# Altium integrated library Button.IntLib: 20 symbols
Pins are listed as number, name and electrical type; pins without a type are passive.

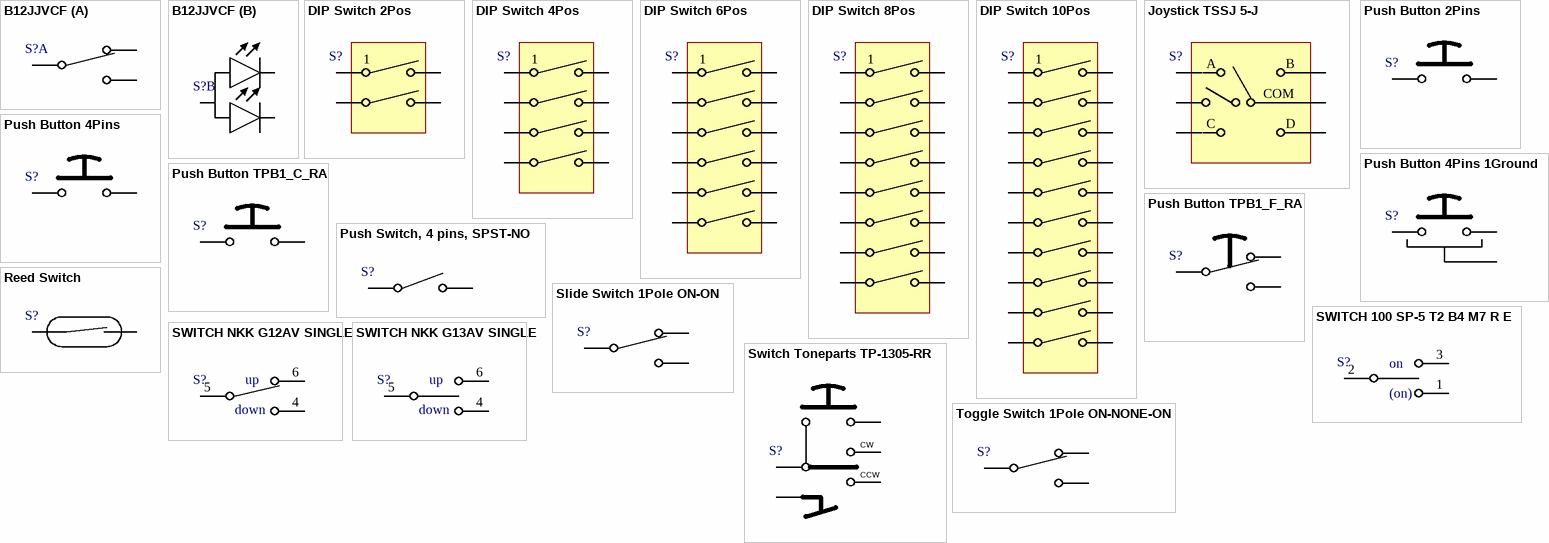
[diagram p0: symbols B12JJVCF to Toggle Switch 1Pole ON-NONE-ON]

## B12JJVCF
designator S?  (value not drawn)
Subminiature Fully Illuminated Toggle Switch; Value: *
footprint B12JJVCF
part A pins: 1 NO, 2 COM, 3 NC
part B pins: 4 C1, 5 A, 6 C2

## DIP Switch 2Pos
designator S?  (value not drawn)
MULTICOMP  MCDHN-02F; Value: *
footprint DIP SWITCH MULTICOMP  MCDHN-02F (DIP SWITCH MULTICOMP  MCDHN-02F, P1.27)
pins: 1, 2, 3, 4

## DIP Switch 4Pos
designator S?  (value not drawn)
MULTICOMP  MCDHN-04F; Value: *
footprint DIP SWITCH MULTICOMP  MCDHN-04F (DIP SWITCH MULTICOMP  MCDHN-04F, P1.27)
pins: 1, 2, 3, 4, 5, 6, 7, 8

## DIP Switch 6Pos
designator S?  (value not drawn)
MULTICOMP  MCDHN-06F; Value: *
footprint DIP SWITCH MULTICOMP  MCDHN-06F (DIP SWITCH MULTICOMP  MCDHN-06F, P1.27)
pins: 1, 2, 3, 4, 5, 6, 7, 8, 9, 10, 11, 12

## DIP Switch 8Pos
designator S?  (value not drawn)
MULTICOMP  MCDHN-08F; Value: *
footprint DIP SWITCH MULTICOMP  MCDHN-08F (DIP SWITCH MULTICOMP  MCDHN-08F, P1.27)
pins: 1, 2, 3, 4, 5, 6, 7, 8, 9, 10, 11, 12, 13, 14, 15, 16

## DIP Switch 10Pos
designator S?  (value not drawn)
MULTICOMP  MCDHN-10F; Value: *
footprint DIP SWITCH MULTICOMP  MCDHN-10F (DIP SWITCH MULTICOMP  MCDHN-10F, P1.27)
pins: 1, 2, 3, 4, 5, 6, 7, 8, 9, 10, 11, 12, 13, 14, 15, 16, 17, 18, 19, 20

## Joystick TSSJ 5-J
designator S?, comment TSSJ 5-J  (value not drawn)
Joystick KNITTER TSSJ 5-J; Value: TSSJ 5-J
footprint Joystick C7.8X7.8 KNITTER TSSJ 5-J
pins: 1 A, 2 CP, 3 C, 4 B, 5 COM, 6 D

## Push Button 2Pins
designator S?  (value not drawn)
Push Button, 2 pins; Value: *
footprint Push Button C2.5X3.0 OMRON B3U-1000P(M)-B
footprint Push Button C7.1x3.7 TE FSMRA4JH
footprint Push Button C6.0x3.5 Tyco FSMSM
footprint Push Button KSS241GLFS C&K (Tactile Switch SPST-NO Side Actuated Surface Mount, Right Angle)
footprint Push Button Panasonic EVP-AKE31A
footprint Push Button C2.5X3.0 OMRON B3U-3000P(M)-B
footprint Push Button C2.5X3.0 Toneparts TP-1186
pins: 1, 2

## Push Button 4Pins
designator S?  (value not drawn)
Push Button, 4 pins, 2 poles parrallèle; Value: *
footprint Push Button C3.5X2.9 C&K PTS840 GMP
footprint Push Button C7.4x7.4 C&K KSA0M210 (Push Button C&K KSA0M210)
footprint Push Button C7.4x7.4 C&K KSA0M210 SMD (Push Button C&K KSA0M210 SMD)
footprint Push Button C6.0x6.0 WE 430186130716 (Push Button Wurth Elektronik 430186130716); pin to pad 2>3 3>2
footprint Push Button C6.0x6.0 TE FSM-2J-SMA (Push Button Tyco Electronics FSM-2J-SMA)
footprint Push Button C11.4x11.4 Schurter PMS PCB (Push Button Schurter PMS PCB)
footprint Push Button D12.0 C&K D6R40
footprint Push Button  C10.0x10.0 Multimec 3CSH9R
footprint Push Button C11.4x11.4 Schurter SMS Gullwing (Push Button Schurter SMS Gullwing)
footprint Push Button C4.7X3.5 WE WS-TASU (Push Button C4.7X3.5 Wurth Electronik WS-TASU); pin to pad 2>3 3>2
footprint Push Button C2.6x1.6 Alps SKTAAAE010; pin to pad 2>3 3>2
pins: 1, 2, 3, 4

## Push Button 4Pins 1Ground
designator S?  (value not drawn)
Push Button, 4 pins, 2 poles parrallels, 1 Ground; Value: *
footprint Push Button C4.2x2.8 C&K KMR442G (Push Button C&K KMR442G)
pins: 1, 2, 3, 4, 5 Case

## Push Button TPB1_C_RA
designator S?  (value not drawn)
Pushbutton, SPST, Right Angle; Value: *
footprint Push Button TPB1___RA (Pushbutton, 1 pole, Right Angle)
pins: 1, 3

## Push Button TPB1_F_RA
designator S?  (value not drawn)
Pushbutton, SPDT, Right Angle; Value: *
footprint Push Button TPB1___RA (Pushbutton, 1 pole, Right Angle)
pins: 1, 2, 3

## Push Switch, 4 pins, SPST-NO
designator S?  (value not drawn)
Push Switch, 4 pins; Value: *
footprint Push Switch Panasonic EVQ-P7J01P
pins: 1, 2

## Reed Switch
designator S?  (value not drawn)
Reed Switch Generic; Value: *
footprint Reed Switch Meder MK17-_-2 (Reed Switch Meder MK17-_-2, Case 8.5x2.1, Height 2.1)
pins: 1, 2

## Slide Switch 1Pole ON-ON
designator S?  (value not drawn)
Slide Switch 1Pole ON-ON; Value: *
footprint SLIDE SWITCH 3 Poles P3.2 C11x5.6 (Slide Switch Knitter-Switch type MFP120); pin to pad 1>2 2>1
footprint SLIDE SWITCH 3 Poles P4.7 C13.2x5.7 (Slide Switch NKK MS12ASA30); pin to pad 1>2 2>1
footprint Slide Switch CJS-120xA; pin to pad 1>2 2>3 3>1
pins: 1, 2, 3

## SWITCH 100 SP-5 T2 B4 M7 R E
designator S?, comment 100 SP-5 T2 B4 M7 R E  (value not drawn)
SWITCH 100 SP-5 T2 B4 M7 R E; Manufacturer: E-Switch; Value: 100 SP-5 T2 B4 M7 R E; DigiKey Nr.: EG2396-ND
footprint SWITCH 100 SP-5 T2 B4 M7 R E (E-Switch 100 SP-5 T2 B4 M7 R E DWG:T115016)
pins: 1, 2, 3
text: on; (on)

## SWITCH NKK G12AV SINGLE
designator S?, comment G12AV  (value not drawn)
SWITCH NKK G12AV SINGLE; Manufacturer: NKK SWITCH; mouser nr: 633-G12AV; Value: G12AV
footprint SWITCH NKK G1xAV SINGLE
pins: 4, 5, 6
text: up; down

## SWITCH NKK G13AV SINGLE
designator S?, comment G13AV  (value not drawn)
SWITCH NKK G13AV SINGLE; Manufacturer: NKK SWITCH; mouser nr: 633-G13AV; Value: G13AV
footprint SWITCH NKK G1xAV SINGLE
pins: 4, 5, 6
text: up; down

## Switch Toneparts TP-1305-RR
designator S?  (value not drawn)
Slide + Push Button Toneparts TP-1305-RR; Value: *
footprint SLIDE PUSH Toneparts TP-1305-RR
pins: 1 A, 2 T, 3 B, 4 C, 5 GND
text: CW; CCW

## Toggle Switch 1Pole ON-NONE-ON
designator S?  (value not drawn)
Toggle Switch 1Pole ON-NONE-ON; Value: *
footprint TOGGLE SWITCH NKK M2012SS4G03 (Toggle Switch NKK M2012SS4G03); pin to pad 1>2 2>1
pins: 1, 2, 3